# Altium schematic symbol library WR-MMCX.SchLib: 7 symbols
Pins are listed as number, name and electrical type; pins without a type are passive.

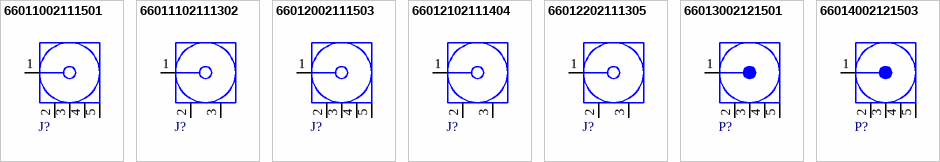
[diagram p0: symbols 66011002111501 to 66014002121503]

## 66011002111501
designator J?  (value not drawn)
WR-MMCX PCB Jack, THT, Right Angle, 6GHz, 50Ω; Manufacturer: Wurth Elektronik; Center Contact Diameter: 0.7mm; Connector Type: MMCX; Interface Type: IEC 61169-52; ComponentLink1Description: Website Link; ComponentLink1URL: https://www.we-online.com/redexpert/article/66011002111501?ad; ComponentLink2Description: Datasheet Link; ComponentLink2URL: https://www.we-online.com/redexpert/spec/66011002111501?ad; Manufacturer Part Number: 66011002111501; Category: Coaxial Connectors; Match Code: WR-MMCX; Mount: Through Hole; Operating Temperature Max: 155°C; Operating Temperature Min: -55°C; Packaging: Tray; Length: 6.5mm; Width: 3.5mm; Height: 3.8mm; Frequency Range: 6GHz; Gender: Jack; Impedance: 50Ω; Orientation: Right Angle
footprint 66011002111501
pins: 1 Signal "Signal Pin", 2 GND, 3 GND, 4 GND, 5 GND

## 66011102111302
designator J?  (value not drawn)
WR-MMCX PCB Jack, SMT, Right Angle, 6GHz, 50Ω; Manufacturer: Wurth Elektronik; Center Contact Diameter: 0.7mm; Connector Type: MMCX; Interface Type: IEC 61169-52; ComponentLink1Description: Website Link; ComponentLink1URL: https://www.we-online.com/redexpert/article/66011102111302?ad; ComponentLink2Description: Datasheet Link; ComponentLink2URL: https://www.we-online.com/redexpert/spec/66011102111302?ad; Manufacturer Part Number: 66011102111302; Category: Coaxial Connectors; Match Code: WR-MMCX; Mount: Surface Mount; Operating Temperature Max: 155°C; Operating Temperature Min: -55°C; Packaging: Tape and Reel; Length: 6.9mm; Width: 3.5mm; Height: 4.6mm; Frequency Range: 6GHz; Gender: Jack; Impedance: 50Ω; Orientation: Right Angle
footprint 66011102111302
pins: 1 Signal "Signal Pin", 2 GND, 3 GND

## 66012002111503
designator J?  (value not drawn)
WR-MMCX PCB Jack, THT, Straight, 6GHz, 50Ω; Manufacturer: Wurth Elektronik; Center Contact Diameter: 0.7mm; Connector Type: MMCX; Interface Type: IEC 61169-52; ComponentLink1Description: Website Link; ComponentLink1URL: https://www.we-online.com/redexpert/article/66012002111503?ad; ComponentLink2Description: Datasheet Link; ComponentLink2URL: https://www.we-online.com/redexpert/spec/66012002111503?ad; Manufacturer Part Number: 66012002111503; Category: Coaxial Connectors; Match Code: WR-MMCX; Mount: Through Hole; Operating Temperature Max: 155°C; Operating Temperature Min: -55°C; Packaging: Tray; Length: 3.5mm; Width: 3.5mm; Height: 4.5mm; Frequency Range: 6GHz; Gender: Jack; Impedance: 50Ω; Orientation: Straight
footprint 66012002111503
pins: 1 Signal "Signal Pin", 2 GND, 3 GND, 4 GND, 5 GND

## 66012102111404
designator J?  (value not drawn)
WR-MMCX PCB Jack, SMT, Straight, 6GHz, 50Ω; Manufacturer: Wurth Elektronik; Center Contact Diameter: 0.7mm; Connector Type: MMCX; Interface Type: IEC 61169-52; ComponentLink1Description: Website Link; ComponentLink1URL: https://www.we-online.com/redexpert/article/66012102111404?ad; ComponentLink2Description: Datasheet Link; ComponentLink2URL: https://www.we-online.com/redexpert/spec/66012102111404?ad; Manufacturer Part Number: 66012102111404; Category: Coaxial Connectors; Match Code: WR-MMCX; Mount: Surface Mount; Operating Temperature Max: 155°C; Operating Temperature Min: -55°C; Packaging: Tape and Reel; Length: 3.5mm; Width: 3.5mm; Height: 5mm; Frequency Range: 6GHz; Gender: Jack; Impedance: 50Ω; Orientation: Straight
footprint 66012102111404
pins: 1 Signal "Signal Pin", 2 GND, 3 GND

## 66012202111305
designator J?  (value not drawn)
WR-MMCX PCB End Lauch Jack Edge Card, SMT, Straight, 6GHz, 50Ω; Manufacturer: Wurth Elektronik; Center Contact Diameter: 0.7mm; Connector Type: MMCX; Interface Type: IEC 61169-52; ComponentLink1Description: Website Link; ComponentLink1URL: https://www.we-online.com/redexpert/article/66012202111305?ad; ComponentLink2Description: Datasheet Link; ComponentLink2URL: https://www.we-online.com/redexpert/spec/66012202111305?ad; Manufacturer Part Number: 66012202111305; Category: Coaxial Connectors; Match Code: WR-MMCX; Mount: Surface Mount; Operating Temperature Max: 155°C; Operating Temperature Min: -55°C; Packaging: Tape and Reel; Length: 7.5mm; Width: 4.5mm; Height: 2.1mm; Frequency Range: 6GHz; Gender: Jack; Impedance: 50Ω; Orientation: Straight
footprint 66012202111305
pins: 1 Signal "Signal Pin", 2 GND, 3 GND

## 66013002121501
designator P?  (value not drawn)
WR-MMCX PCB Plug, THT, Right Angle, 6GHz, 50Ω; Manufacturer: Wurth Elektronik; Center Contact Diameter: 0.7mm; Connector Type: MMCX; Interface Type: IEC 61169-52; ComponentLink1Description: Website Link; ComponentLink1URL: https://www.we-online.com/redexpert/article/66013002121501?ad; ComponentLink2Description: Datasheet Link; ComponentLink2URL: https://www.we-online.com/redexpert/spec/66013002121501?ad; Manufacturer Part Number: 66013002121501; Category: Coaxial Connectors; Match Code: WR-MMCX; Mount: Through Hole; Operating Temperature Max: 155°C; Operating Temperature Min: -55°C; Packaging: Tray; Length: 6.3mm; Width: 3.5mm; Height: 4.6mm; Frequency Range: 6GHz; Gender: Plug; Impedance: 50Ω; Orientation: Right Angle
footprint 66013002121501
pins: 1 Signal "Signal Pin", 2 GND, 3 GND, 4 GND, 5 GND

## 66014002121503
designator P?  (value not drawn)
WR-MMCX PCB Plug, THT, Straight, 6GHz, 50Ω; Manufacturer: Wurth Elektronik; Center Contact Diameter: 0.7mm; Connector Type: MMCX; Interface Type: IEC 61169-52; ComponentLink1Description: Website Link; ComponentLink1URL: https://www.we-online.com/redexpert/article/66014002121503?ad; ComponentLink2Description: Datasheet Link; ComponentLink2URL: https://www.we-online.com/redexpert/spec/66014002121503?ad; Manufacturer Part Number: 66014002121503; Category: Coaxial Connectors; Match Code: WR-MMCX; Mount: Through Hole; Operating Temperature Max: 155°C; Operating Temperature Min: -55°C; Packaging: Tray; Length: 3.5mm; Width: 3.5mm; Height: 4.5mm; Frequency Range: 6GHz; Gender: Plug; Impedance: 50Ω; Orientation: Straight
footprint 66014002121503
pins: 1 Signal "Signal Pin", 2 GND, 3 GND, 4 GND, 5 GND